# EAGLE library part LM317LD (library 0SBLib)
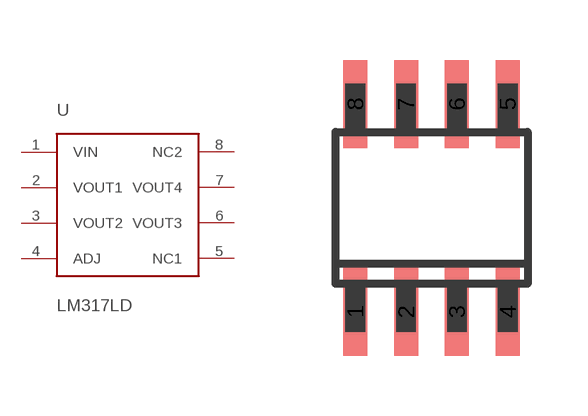
[diagram p17: symbol with the pads of SO-08; footprint SO-08]

Designator prefix -

## LM317LD  [SO-08]
1  VIN
2  VOUT1
3  VOUT2
4  ADJ
5  NC1
6  VOUT3
7  VOUT4
8  NC2

## Footprint SO-08 (pad centres in mm)
Small Outline Narrow Plastic Gull Wing 150-mil body, package type SN
smd 0.6 x 2.2: 1 -1.905,-2.6; 2 -0.635,-2.6; 3 0.635,-2.6; 4 1.905,-2.6; 5 1.905,2.6; 6 0.635,2.6; 7 -0.635,2.6; 8 -1.905,2.6